# EAGLE library part 6N138 (library jasons_stuff)
MOTOROLA OPTO COUPLER
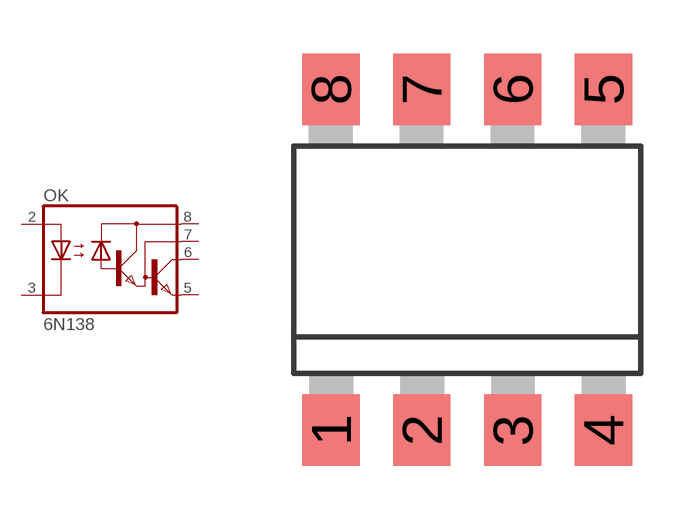
[diagram p23: symbol with the pads of DIL8-SMD; footprint DIL8-SMD]

Designator prefix OK

## 6N138  [DIL8-SMD]
2  A  pas
3  C  pas
5  GND  pas
6  VO  pas
7  VB  pas
8  VCC  pas

## Footprint DIL8-SMD (pad centres in mm)
Dual In Line SMD 8 pol. Source: LITE-ON ELECTRONICS, LTV816.pdf
smd 1.6 x 2: 1 -3.81,-4.77; 2 -1.27,-4.77; 3 1.27,-4.77; 4 3.81,-4.77; 5 3.81,4.77; 6 1.27,4.77; 7 -1.27,4.77; 8 -3.81,4.77